# Altium footprint library Microchips.PcbLib: 37 footprints (part 2 of 3)
Each footprint in its own frame and in the unit in brackets; x right, y up, seen from the top. Pads: shape width x height; smd on the part's side, far side on the other; paste and mask are expansions set on the pad; w line width, h text height; cw(c..) or ccw(c..) is an arc to the next point about the centre after c.
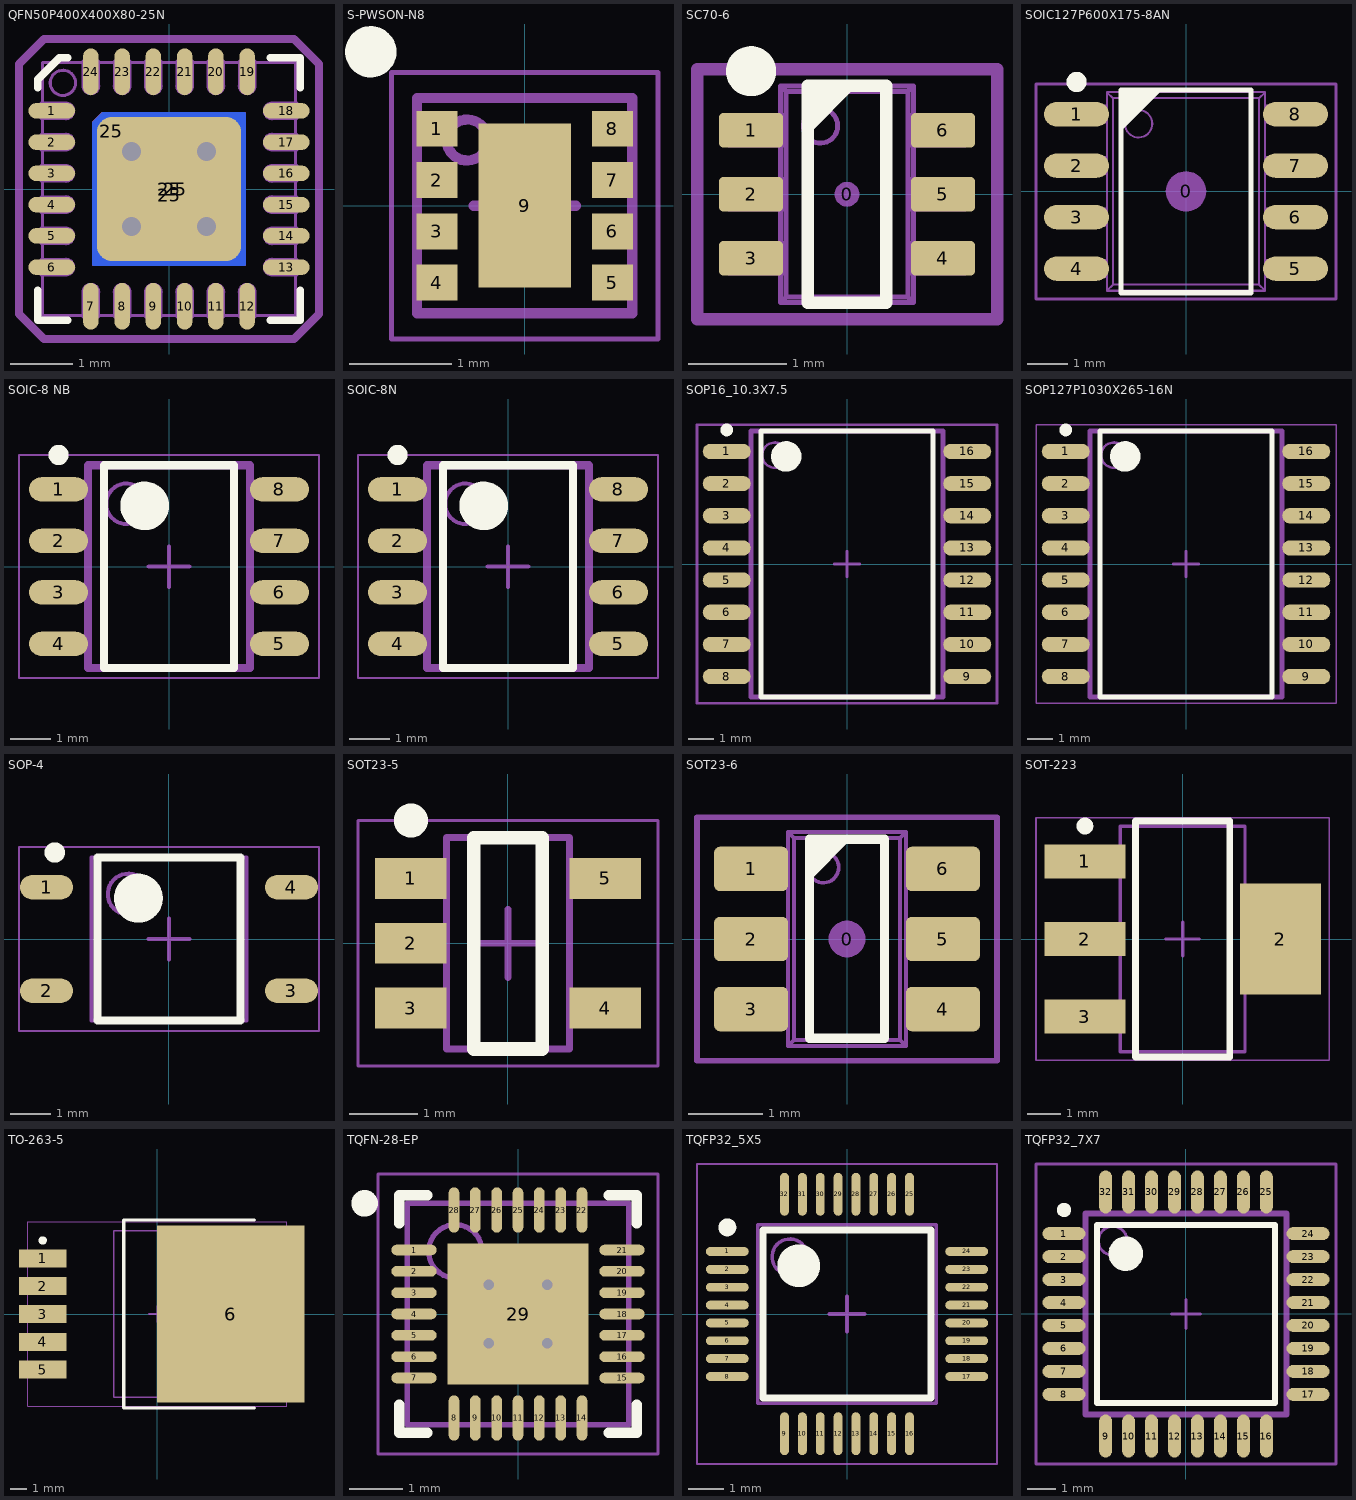
[diagram p1: the footprints below, top view; thin cyan lines are the x and y axes]

## QFN50P400X400X80-25N [mm] "QFN, 24-Leads with exposed die pad, Body 4.05x4.05mm (max), Pitch 0.50mm, IPC Medium Density"
height 0.8
pads (28):
  oval 0.75x0.25 smd mask+0.075: 1(-1.875,1.25) 2(-1.875,0.75) 3(-1.875,0.25) 4(-1.875,-0.25) 5(-1.875,-0.75) 6(-1.875,-1.25) 13(1.875,-1.25) 14(1.875,-0.75) 15(1.875,-0.25) 16(1.875,0.25) 17(1.875,0.75) 18(1.875,1.25)
  oval 0.25x0.75 smd mask+0.075: 7(-1.25,-1.875) 8(-0.75,-1.875) 9(-0.25,-1.875) 10(0.25,-1.875) 11(0.75,-1.875) 12(1.25,-1.875) 19(1.25,1.875) 20(0.75,1.875) 21(0.25,1.875) 22(-0.25,1.875) 23(-0.75,1.875) 24(-1.25,1.875)
  oct 0.6x0.6 smd far side paste-1.7: 25(-0.925,0.925)
  rrect1% 2.45x2.25 smd far side paste-1.7: 25(0,-0.1)
  rrect20% 2.3x2.3 smd paste-1.7: 25(0,0)
  rrect1% 2.25x2.45 smd far side paste-1.7: 25(0.1,0)
via -0.6,-0.6 diameter 0.4 hole 0.3
via 0.6,-0.6 diameter 0.4 hole 0.3
via 0.6,0.6 diameter 0.4 hole 0.3
via -0.6,0.6 diameter 0.4 hole 0.3
Top Layer:
  region: 1.025,-1.225 1.225,-1.225 1.225,1.225 1.025,1.225
  region: 1.225,-1.225 1.225,-1.025 -1.225,-1.025 -1.225,-1.225
  region: -1.225,1.075 -1.075,1.225 1.225,1.225 1.225,1.075
  region: -1.075,1.225 -1.225,1.075 -1.225,-1.225 -1.075,-1.225
Top Overlay:
  lines w0.127: -2.1,-1.625 -2.1,-2.1 -1.625,-2.1 ; -2.1,1.625 -2.1,1.75 -1.75,2.1 -1.625,2.1 ; 1.625,-2.1 2.1,-2.1 2.1,-1.625 ; 1.625,2.1 2.1,2.1 2.1,1.625
  text "." at -2.63,1.25 h0.05
Top Paste:
  region: -1.1,-0.3 -1.1,0.3 -1,0.4 -0.5,0.4 -0.4,0.5 -0.4,1 -0.3,1.1 0.3,1.1 0.4,1 0.4,0.5 0.5,0.4 1,0.4 1.1,0.3 1.1,-0.3 1,-0.4 0.5,-0.4 0.4,-0.5 0.4,-1 0.3,-1.1 -0.3,-1.1 -0.4,-1 -0.4,-0.5 -0.5,-0.4 -1,-0.4
Bottom Paste:
  region: 0.2,1 -0.2,1 -0.4,0.8 -0.4,0.5 -0.5,0.4 -0.8,0.4 -1,0.2 -1,-0.2 -0.8,-0.4 -0.5,-0.4 -0.4,-0.5 -0.4,-0.8 -0.2,-1 0.2,-1 0.4,-0.8 0.4,-0.5 0.5,-0.4 0.8,-0.4 1,-0.2 1,0.2 0.8,0.4 0.5,0.4 0.4,0.5 0.4,0.8
Top Solder:
  circle w0.4: c-0.6,-0.6 r0.4
  circle w0.4: c0.6,-0.6 r0.4
  circle w0.4: c0.6,0.6 r0.4
  circle w0.4: c-0.6,0.6 r0.4
  rectangle: -0.3,-1.225 0.3,1.2
  region: 1.225,-0.3 1.225,0.3 -1.2,0.3 -1.2,-0.3
Mechanical 13:
  circle w0.05: c-1.698,1.698 r0.202
  lines w0.05: -2.025,-1.375 -2.025,-2.025 -1.375,-2.025 ; -2.025,-1.125 -2.025,-0.875 ; -2.025,-0.625 -2.025,-0.375 ; -2.025,-0.125 -2.025,0.125 ; -2.025,0.375 -2.025,0.625 ; -2.025,0.875 -2.025,1.125 ; -2.025,1.375 -2.025,2.025 -1.375,2.025 ; -1.125,-2.025 -0.875,-2.025 ; -1.125,2.025 -0.875,2.025 ; -0.625,-2.025 -0.375,-2.025 ; -0.625,2.025 -0.375,2.025 ; -0.125,-2.025 0.125,-2.025 ; -0.125,2.025 0.125,2.025 ; 0.375,-2.025 0.625,-2.025 ; 0.375,2.025 0.625,2.025 ; 0.875,-2.025 1.125,-2.025 ; 0.875,2.025 1.125,2.025 ; 1.375,-2.025 2.025,-2.025 2.025,-1.375 ; 1.375,2.025 2.025,2.025 2.025,1.375 ; 2.025,-1.125 2.025,-0.875 ; 2.025,-0.625 2.025,-0.375 ; 2.025,-0.125 2.025,0.125 ; 2.025,0.375 2.025,0.625 ; 2.025,0.875 2.025,1.125 ; -2.045,-1.375 -1.65,-1.375 ccw(c-1.65,-1.25) -1.65,-1.125 -2.045,-1.125 -2.045,-1.375 ; -2.045,-0.875 -1.65,-0.875 ccw(c-1.65,-0.75) -1.65,-0.625 -2.045,-0.625 -2.045,-0.875 ; -2.045,-0.375 -1.65,-0.375 ccw(c-1.65,-0.25) -1.65,-0.125 -2.045,-0.125 -2.045,-0.375 ; -2.045,0.125 -1.65,0.125 ccw(c-1.65,0.25) -1.65,0.375 -2.045,0.375 -2.045,0.125 ; -2.045,0.625 -1.65,0.625 ccw(c-1.65,0.75) -1.65,0.875 -2.045,0.875 -2.045,0.625 ; -2.045,1.125 -1.65,1.125 ccw(c-1.65,1.25) -1.65,1.375 -2.045,1.375 -2.045,1.125 ; -1.375,-2.045 -1.375,-1.65 cw(c-1.25,-1.65) -1.125,-1.65 -1.125,-2.045 -1.375,-2.045 ; -1.375,1.65 ccw(c-1.25,1.65) -1.125,1.65 -1.125,2.045 -1.375,2.045 -1.375,1.65 ; -0.875,-2.045 -0.875,-1.65 cw(c-0.75,-1.65) -0.625,-1.65 -0.625,-2.045 -0.875,-2.045 ; -0.875,1.65 ccw(c-0.75,1.65) -0.625,1.65 -0.625,2.045 -0.875,2.045 -0.875,1.65 ; -0.375,-2.045 -0.375,-1.65 cw(c-0.25,-1.65) -0.125,-1.65 -0.125,-2.045 -0.375,-2.045 ; -0.375,1.65 ccw(c-0.25,1.65) -0.125,1.65 -0.125,2.045 -0.375,2.045 -0.375,1.65 ; 0.125,-2.045 0.125,-1.65 cw(c0.25,-1.65) 0.375,-1.65 0.375,-2.045 0.125,-2.045 ; 0.125,1.65 ccw(c0.25,1.65) 0.375,1.65 0.375,2.045 0.125,2.045 0.125,1.65 ; 0.625,-2.045 0.625,-1.65 cw(c0.75,-1.65) 0.875,-1.65 0.875,-2.045 0.625,-2.045 ; 0.625,1.65 ccw(c0.75,1.65) 0.875,1.65 0.875,2.045 0.625,2.045 0.625,1.65 ; 1.125,-2.045 1.125,-1.65 cw(c1.25,-1.65) 1.375,-1.65 1.375,-2.045 1.125,-2.045 ; 1.125,1.65 ccw(c1.25,1.65) 1.375,1.65 1.375,2.045 1.125,2.045 1.125,1.65 ; 1.65,-1.375 cw(c1.65,-1.25) 1.65,-1.125 2.045,-1.125 2.045,-1.375 1.65,-1.375 ; 1.65,-0.875 cw(c1.65,-0.75) 1.65,-0.625 2.045,-0.625 2.045,-0.875 1.65,-0.875 ; 1.65,-0.375 cw(c1.65,-0.25) 1.65,-0.125 2.045,-0.125 2.045,-0.375 1.65,-0.375 ; 1.65,0.125 cw(c1.65,0.25) 1.65,0.375 2.045,0.375 2.045,0.125 1.65,0.125 ; 1.65,0.625 cw(c1.65,0.75) 1.65,0.875 2.045,0.875 2.045,0.625 1.65,0.625 ; 1.65,1.125 cw(c1.65,1.25) 1.65,1.375 2.045,1.375 2.045,1.125 1.65,1.125
Mechanical 15:
  lines w0.127: -2.4,-2 -2.4,2 -2,2.4 2,2.4 2.4,2 2.4,-2 2,-2.4 -2,-2.4 -2.4,-2
3D body "QFN50P400X400X80-25N.STEP": height 0.8, standoff 0, extent -2.045,-2.045 2.045,2.045

## S-PWSON-N8 [mm] "PQFN, 8-Leads, Body 2,00x2,00mm, Pitch 0,50mm, Thermal Pad 0,90x1,60mm, IPC Medium Density"
height 0.8
pads (9):
  rect 0.4x0.35 smd: 1(-0.855,0.75) 2(-0.855,0.25) 3(-0.855,-0.25) 4(-0.855,-0.75) 5(0.855,-0.75) 6(0.855,-0.25) 7(0.855,0.25) 8(0.855,0.75)
  rect 0.9x1.6 smd: 9(0,0)
Top Overlay:
  circle w0.25: c-1.5,1.5 r0.125
Mechanical 13:
  circle w0.1: c-0.56,0.64 r0.2
  lines w0.1: -1.05,-1.05 -1.05,1.05 1.05,1.05 1.05,-1.05 -1.05,-1.05
Mechanical 15:
  lines w0.05: -1.3,-1.3 -1.3,1.3 1.3,1.3 1.3,-1.3 -1.3,-1.3
  lines w0.1: -0.5,0 0.5,0 ; 0,-0.5 0,0.5
3D body "DSG (S-PWSON-N8).step": height 0.79, standoff -0.01, extent -1.05,-1.05 1.05,1.05

## SC70-6 [mm] "SC70-6; SOT-363"
height 1.6
pads (7):
  round 0.254 on Mech15: 0(0,0)
  rrect25% 0.65x0.35 smd: 1(-0.975,0.65) 2(-0.975,0) 3(-0.975,-0.65) 4(0.975,-0.65) 5(0.975,0) 6(0.975,0.65)
Top Overlay:
  circle w0.254: c-0.975,1.25 r0.127
  region: 0.1,1.1 -0.4,0.6 -0.4,1.1
  lines w0.127: -0.4,-1.1 0.4,-1.1 0.4,1.1 -0.4,1.1 -0.4,-1.1
Mechanical 13:
  circle w0.05: c-0.27,0.695 r0.175
  lines w0.05: -1.028,-0.8 -1.028,-0.5 ; -1.028,-0.15 -1.028,0.15 ; -1.028,0.5 -1.028,0.8 ; -0.937,-0.8 -0.937,-0.5 ; -0.937,-0.15 -0.937,0.15 ; -0.937,0.5 -0.937,0.8 ; -0.925,-0.8 -0.925,-0.5 ; -0.925,-0.15 -0.925,0.15 ; -0.925,0.5 -0.925,0.8 ; 0.925,-0.8 0.925,-0.5 ; 0.925,-0.15 0.925,0.15 ; 0.925,0.5 0.925,0.8 ; 0.937,-0.8 0.937,-0.5 ; 0.937,-0.15 0.937,0.15 ; 0.937,0.5 0.937,0.8 ; 1.028,-0.8 1.028,-0.5 ; 1.028,-0.15 1.028,0.15 ; 1.028,0.5 1.028,0.8 ; -0.675,-1.1 -0.619,-1.044 ; -0.675,-1.1 -0.675,1.1 ; -0.675,-1.1 0.675,-1.1 ; -0.675,1.1 -0.619,1.044 ; -0.675,1.1 0.675,1.1 ; -0.619,-1.044 -0.619,1.044 ; -0.619,-1.044 0.619,-1.044 ; -0.619,1.044 0.619,1.044 ; 0.619,-1.044 0.619,1.044 ; 0.619,-1.044 0.675,-1.1 ; 0.619,1.044 0.675,1.1 ; 0.675,-1.1 0.675,1.1 ; -1.2,-0.8 -0.654,-0.8 -0.654,-0.5 -1.2,-0.5 -1.2,-0.8 ; -1.2,-0.15 -0.654,-0.15 -0.654,0.15 -1.2,0.15 -1.2,-0.15 ; -1.2,0.5 -0.654,0.5 -0.654,0.8 -1.2,0.8 -1.2,0.5 ; 0.654,-0.8 0.654,-0.5 1.2,-0.5 1.2,-0.8 0.654,-0.8 ; 0.654,-0.15 0.654,0.15 1.2,0.15 1.2,-0.15 0.654,-0.15 ; 0.654,0.5 0.654,0.8 1.2,0.8 1.2,0.5 0.654,0.5
Mechanical 15:
  lines w0.127: -1.524,-1.27 1.524,-1.27 1.524,1.27 -1.524,1.27 -1.524,-1.27
3D body "SOT363.STEP": height 1.1, standoff 0, extent -1.2,-1.1 1.2,1.1

## SOIC127P600X175-8AN [mm] "SOIC, 8-Leads, Body 4.9x3.9mm, Pitch 1.27mm, IPC Medium Density"
height 1.75
pads (9):
  round 1 on Mech15: 0(0,0)
  oval 1.6x0.6 smd: 1(-2.7,1.905) 2(-2.7,0.635) 3(-2.7,-0.635) 4(-2.7,-1.905) 5(2.7,-1.905) 6(2.7,-0.635) 7(2.7,0.635) 8(2.7,1.905)
Top Overlay:
  circle w0.25: c-2.7,2.7 r0.125
  region: -1.6,2.5 -0.6,2.5 -1.6,1.5
  lines w0.127: -1.6,-2.5 1.6,-2.5 1.6,2.5 -1.6,2.5 -1.6,-2.5
Mechanical 13:
  circle w0.05: c-1.17,1.67 r0.338
  lines w0.05: -2.631,-2.115 -2.631,-1.695 ; -2.631,-0.845 -2.631,-0.425 ; -2.631,0.425 -2.631,0.845 ; -2.631,1.695 -2.631,2.115 ; -2.543,-2.115 -2.543,-1.695 ; -2.543,-0.845 -2.543,-0.425 ; -2.543,0.425 -2.543,0.845 ; -2.543,1.695 -2.543,2.115 ; -2.403,-2.115 -2.403,-1.695 ; -2.403,-0.845 -2.403,-0.425 ; -2.403,0.425 -2.403,0.845 ; -2.403,1.695 -2.403,2.115 ; -2.113,-2.115 -2.113,-1.695 ; -2.113,-0.845 -2.113,-0.425 ; -2.113,0.425 -2.113,0.845 ; -2.113,1.695 -2.113,2.115 ; -1.95,-2.115 -3,-2.115 -3,-1.695 -1.95,-1.695 ; -1.95,-0.845 -3,-0.845 -3,-0.425 -1.95,-0.425 ; -1.95,0.425 -3,0.425 -3,0.845 -1.95,0.845 ; -1.95,1.695 -3,1.695 -3,2.115 -1.95,2.115 ; 1.95,-2.115 3,-2.115 3,-1.695 1.95,-1.695 ; 1.95,-0.845 3,-0.845 3,-0.425 1.95,-0.425 ; 1.95,0.425 3,0.425 3,0.845 1.95,0.845 ; 1.95,1.695 3,1.695 3,2.115 1.95,2.115 ; 2.113,-2.115 2.113,-1.695 ; 2.113,-0.845 2.113,-0.425 ; 2.113,0.425 2.113,0.845 ; 2.113,1.695 2.113,2.115 ; 2.403,-2.115 2.403,-1.695 ; 2.403,-0.845 2.403,-0.425 ; 2.403,0.425 2.403,0.845 ; 2.403,1.695 2.403,2.115 ; 2.543,-2.115 2.543,-1.695 ; 2.543,-0.845 2.543,-0.425 ; 2.543,0.425 2.543,0.845 ; 2.543,1.695 2.543,2.115 ; 2.631,-2.115 2.631,-1.695 ; 2.631,-0.845 2.631,-0.425 ; 2.631,0.425 2.631,0.845 ; 2.631,1.695 2.631,2.115 ; -1.95,-2.45 -1.801,-2.301 ; -1.95,-2.45 -1.95,2.45 ; -1.95,-2.45 1.95,-2.45 ; -1.95,2.45 1.95,2.45 ; -1.95,2.45 -1.801,2.301 ; -1.801,-2.301 -1.801,2.301 ; -1.801,-2.301 1.801,-2.301 ; -1.801,2.301 1.801,2.301 ; 1.801,-2.301 1.801,2.301 ; 1.801,-2.301 1.95,-2.45 ; 1.801,2.301 1.95,2.45 ; 1.95,-2.45 1.95,2.45
Mechanical 15:
  lines w0.076: -3.7,-2.65 3.7,-2.65 3.7,2.65 -3.7,2.65 -3.7,-2.65
3D body "SOIC-8.STEP": height 1.75, standoff 0, extent -3,-2.45 3,2.45

## SOIC-8 NB [mm] "SOIC, 8-Leads, Body 4,90x3,90mm, Pitch 1,27mm, IPC Medium Density"
height 1.75
pads (8):
  oval 1.45x0.6 smd: 1(-2.725,1.905) 2(-2.725,0.635) 3(-2.725,-0.635) 4(-2.725,-1.905) 5(2.725,-1.905) 6(2.725,-0.635) 7(2.725,0.635) 8(2.725,1.905)
Top Overlay:
  circle w0.6: c-0.6,1.5 r0.3
  circle w0.25: c-2.725,2.755 r0.125
  lines w0.2: -1.6,-2.5 1.6,-2.5 1.6,2.5 -1.6,2.5 -1.6,-2.5
Mechanical 13:
  circle w0.1: c-1.05,1.55 r0.5
  lines w0.2: -2,-2.5 2,-2.5 2,2.5 -2,2.5 -2,-2.5
Mechanical 15:
  lines w0.05: -3.7,-2.75 3.7,-2.75 3.7,2.75 -3.7,2.75 -3.7,-2.75
  lines w0.1: -0.5,0 0.5,0 ; 0,-0.5 0,0.5
3D body "SOIC-8-1.step": height 1.75, standoff 0, extent -3,-2.45 3,2.45

## SOIC-8N [mm] "SOIC, 8-Leads, Body 4,90x3,90mm, Pitch 1,27mm, IPC Medium Density"
height 1.75
pads (8):
  oval 1.45x0.6 smd: 1(-2.725,1.905) 2(-2.725,0.635) 3(-2.725,-0.635) 4(-2.725,-1.905) 5(2.725,-1.905) 6(2.725,-0.635) 7(2.725,0.635) 8(2.725,1.905)
Top Overlay:
  circle w0.25: c-2.725,2.755 r0.125
  circle w0.6: c-0.6,1.5 r0.3
  lines w0.2: -1.6,-2.5 -1.6,2.5 1.6,2.5 1.6,-2.5 -1.6,-2.5
Mechanical 13:
  circle w0.1: c-1.05,1.55 r0.5
  lines w0.2: -2,-2.5 -2,2.5 2,2.5 2,-2.5 -2,-2.5
Mechanical 15:
  lines w0.05: -3.7,-2.75 -3.7,2.75 3.7,2.75 3.7,-2.75 -3.7,-2.75
  lines w0.1: -0.5,0 0.5,0 ; 0,-0.5 0,0.5
3D body "SOIC-8-1.step": height 1.75, standoff 0, extent -3,-2.45 3,2.45

## SOP16_10.3X7.5 [mm] "SOP, 16-Leads, Body 10,30x7,50mm, Pitch 1,27mm, IPC Medium Density"
height 2.65
pads (16):
  oval 1.9x0.6 smd: 1(-4.75,4.445) 2(-4.75,3.175) 3(-4.75,1.905) 4(-4.75,0.635) 5(-4.75,-0.635) 6(-4.75,-1.905) 7(-4.75,-3.175) 8(-4.75,-4.445) 9(4.75,-4.445) 10(4.75,-3.175) 11(4.75,-1.905) 12(4.75,-0.635) 13(4.75,0.635) 14(4.75,1.905) 15(4.75,3.175) 16(4.75,4.445)
Top Overlay:
  circle w0.25: c-4.75,5.295 r0.125
  circle w0.6: c-2.4,4.25 r0.3
  lines w0.2: -3.4,-5.25 -3.4,5.25 3.4,5.25 3.4,-5.25 -3.4,-5.25
Mechanical 13:
  circle w0.1: c-2.85,4.3 r0.5
  lines w0.2: -3.8,-5.25 -3.8,5.25 3.8,5.25 3.8,-5.25 -3.8,-5.25
Mechanical 15:
  lines w0.1: -0.5,0 0.5,0 ; 0,-0.5 0,0.5 ; -5.925,-5.5 -5.925,5.5 5.925,5.5 5.925,-5.5 -5.925,-5.5
3D body "so16w.step": height 3.5, standoff 0, extent -5.15,-5.1 5.15,5.1

## SOP127P1030X265-16N [mm] "SOP, 16-Leads, Body 10,30x7,50mm, Pitch 1,27mm, IPC Medium Density"
height 2.65
pads (16):
  oval 1.9x0.6 smd: 1(-4.75,4.445) 2(-4.75,3.175) 3(-4.75,1.905) 4(-4.75,0.635) 5(-4.75,-0.635) 6(-4.75,-1.905) 7(-4.75,-3.175) 8(-4.75,-4.445) 9(4.75,-4.445) 10(4.75,-3.175) 11(4.75,-1.905) 12(4.75,-0.635) 13(4.75,0.635) 14(4.75,1.905) 15(4.75,3.175) 16(4.75,4.445)
Top Overlay:
  circle w0.25: c-4.75,5.295 r0.125
  circle w0.6: c-2.4,4.25 r0.3
  lines w0.2: -3.4,-5.25 -3.4,5.25 3.4,5.25 3.4,-5.25 -3.4,-5.25
Mechanical 13:
  circle w0.1: c-2.85,4.3 r0.5
  lines w0.2: -3.8,-5.25 -3.8,5.25 3.8,5.25 3.8,-5.25 -3.8,-5.25
Mechanical 15:
  lines w0.05: -5.925,-5.5 -5.925,5.5 5.925,5.5 5.925,-5.5 -5.925,-5.5
  lines w0.1: -0.5,0 0.5,0 ; 0,-0.5 0,0.5
3D body "SOP127P1030X265-16N.step": height 2.8, standoff 0, extent -5.178,-5.25 5.178,5.25

## SOP-4 [mm] "SOP, 4-Leads, Body 4,00x3,80mm, Pitch 2,54mm, IPC Medium Density"
height 2.18
pads (4):
  oval 1.3x0.6 smd: 1(-3,1.27) 2(-3,-1.27) 3(3,-1.27) 4(3,1.27)
Top Overlay:
  circle w0.6: c-0.75,1 r0.3
  circle w0.25: c-2.8,2.12 r0.125
  lines w0.2: -1.75,-2 1.75,-2 1.75,2 -1.75,2 -1.75,-2
Mechanical 13:
  circle w0.1: c-1,1.1 r0.5
  lines w0.1: -1.9,-2 1.9,-2 1.9,2 -1.9,2 -1.9,-2
Mechanical 15:
  lines w0.05: -3.675,-2.25 3.675,-2.25 3.675,2.25 -3.675,2.25 -3.675,-2.25
  lines w0.1: -0.5,0 0.5,0 ; 0,-0.5 0,0.5
3D body "4-SOP.STEP": height 2.1, standoff 0, extent -3.4,-2.15 3.4,2.15

## SOT23-5 [mm] "SOT23, 5-Leads, Body 2,90x2,70mm, Pitch 0,95mm, IPC Medium Density"
height 1.45
pads (5):
  rect 1.05x0.6 smd: 1(-1.425,0.95) 2(-1.425,0) 3(-1.425,-0.95) 4(1.425,-0.95) 5(1.425,0.95)
Top Overlay:
  circle w0.25: c-1.425,1.8 r0.125
  lines w0.2: -0.5,-1.55 0.5,-1.55 0.5,1.55 -0.5,1.55 -0.5,-1.55
Mechanical 13:
  lines w0.1: -0.9,-1.55 -0.9,1.55 0.9,1.55 0.9,-1.55 -0.9,-1.55
Mechanical 15:
  lines w0.05: -2.2,-1.8 -2.2,1.8 2.2,1.8 2.2,-1.8 -2.2,-1.8
  lines w0.1: -0.5,0 0.5,0 ; 0,-0.5 0,0.5
3D body "User Library-SOT23-5-2.step": height 1.45, standoff 0, extent -1.4,-1.45 1.4,1.45

## SOT23-6 [mm]
height 1.6
pads (7):
  round 0.5 on Mech15: 0(0,0)
  rrect25% 1x0.6 smd: 1(-1.3,0.95) 2(-1.3,0) 3(-1.3,-0.95) 4(1.3,-0.95) 5(1.3,0) 6(1.3,0.95)
Top Overlay:
  region: -0.508,1.353 0.053,1.353 -0.508,0.792
  lines w0.127: -0.508,-1.347 0.508,-1.347 0.508,1.353 -0.508,1.353 -0.508,-1.347
  text "." at -2.275,0.95 h0.1
Mechanical 13:
  circle w0.05: c-0.32,0.97 r0.208
  lines w0.05: -1.191,-1.15 -1.191,-0.75 ; -1.191,-0.2 -1.191,0.2 ; -1.191,0.75 -1.191,1.15 ; -1.1,-1.15 -1.1,-0.75 ; -1.1,-0.2 -1.1,0.2 ; -1.1,0.75 -1.1,1.15 ; -1.094,-1.15 -1.094,-0.75 ; -1.094,-0.2 -1.094,0.2 ; -1.094,0.75 -1.094,1.15 ; -0.844,-1.15 -0.844,-0.75 ; -0.844,-0.2 -0.844,0.2 ; -0.844,0.75 -0.844,1.15 ; -0.8,-1.15 -1.4,-1.15 -1.4,-0.75 -0.8,-0.75 ; -0.8,-0.2 -1.4,-0.2 -1.4,0.2 -0.8,0.2 ; -0.8,0.75 -1.4,0.75 -1.4,1.15 -0.8,1.15 ; 0.8,-1.15 1.4,-1.15 1.4,-0.75 0.8,-0.75 ; 0.8,-0.2 1.4,-0.2 1.4,0.2 0.8,0.2 ; 0.8,0.75 1.4,0.75 1.4,1.15 0.8,1.15 ; 0.844,-1.15 0.844,-0.75 ; 0.844,-0.2 0.844,0.2 ; 0.844,0.75 0.844,1.15 ; 1.094,-1.15 1.094,-0.75 ; 1.094,-0.2 1.094,0.2 ; 1.094,0.75 1.094,1.15 ; 1.1,-1.15 1.1,-0.75 ; 1.1,-0.2 1.1,0.2 ; 1.1,0.75 1.1,1.15 ; 1.191,-1.15 1.191,-0.75 ; 1.191,-0.2 1.191,0.2 ; 1.191,0.75 1.191,1.15 ; -0.8,-1.45 -0.8,1.45 ; -0.8,-1.45 -0.719,-1.369 ; -0.8,-1.45 0.8,-1.45 ; -0.8,1.45 -0.719,1.369 ; -0.8,1.45 0.8,1.45 ; -0.719,-1.369 0.719,-1.369 ; -0.719,-1.369 -0.719,1.369 ; -0.719,1.369 0.719,1.369 ; 0.719,-1.369 0.8,-1.45 ; 0.719,-1.369 0.719,1.369 ; 0.719,1.369 0.8,1.45 ; 0.8,-1.45 0.8,1.45
Mechanical 15:
  lines w0.076: -2.032,-1.651 2.032,-1.651 2.032,1.651 -2.032,1.651 -2.032,-1.651
3D body "SOT23-6.STEP": height 1.44, standoff -0.01, extent -1.4,-1.45 1.4,1.45

## SOT-223 [mm] "SOT223, 4-Leads, Body 6,50x7,00mm (avg), Pitch 2,30mm, IPC Medium Density"
height 1.8
pads (4):
  rect 2.4x1 smd: 1(-2.9,2.3) 2(-2.9,0) 3(-2.9,-2.3)
  rect 2.4x3.3 smd: 2(2.9,0)
Top Overlay:
  circle w0.25: c-2.9,3.35 r0.125
  lines w0.2: -1.4,-3.5 1.4,-3.5 1.4,3.5 -1.4,3.5 -1.4,-3.5
Mechanical 13:
  lines w0.1: -1.85,-3.35 1.85,-3.35 1.85,3.35 -1.85,3.35 -1.85,-3.35
Mechanical 15:
  lines w0.05: -4.35,-3.6 4.35,-3.6 4.35,3.6 -4.35,3.6 -4.35,-3.6
  lines w0.1: -0.5,0 0.5,0 ; 0,-0.5 0,0.5
3D body "User Library-SOT-223-1.step": height 1.64, standoff -0.01, extent -3.5,-3.25 3.5,3.25

## TO-263-5 [mm]
height 4.57
pads (6):
  rect 2.9x1.1 smd: 1(-7,3.4) 2(-7,1.7) 3(-7,0) 4(-7,-1.7) 5(-7,-3.4)
  rect 9x10.8 smd: 6(4.5,0)
Top Overlay:
  circle w0.25: c-7,4.5 r0.125
  lines w0.2: 5.95,-5.75 -2.05,-5.75 -2.05,5.75 5.95,5.75
Mechanical 13:
  lines w0.1: -2.65,-5.1 6,-5.1 6,5.1 -2.65,5.1 -2.65,-5.1
Mechanical 15:
  lines w0.05: -7.925,-5.65 7.925,-5.65 7.925,5.65 -7.925,5.65 -7.925,-5.65
  lines w0.1: -0.5,0 0.5,0 ; 0,-0.5 0,0.5
3D body "SW3dPS-TO263-5.STEP": height 4.78, standoff -0.02, extent -7.835,-5 7.835,5

## TQFN-28-EP [mm] "QFN, 28-Leads, Body 4,00x4,00mm, Pitch 0,40mm, Thermal Pad 2,65x2,65mm, IPC Medium Density"
height 0.75
pads (29):
  oval 0.85x0.2 smd: 1(-1.95,1.2) 2(-1.95,0.8) 3(-1.95,0.4) 4(-1.95,0) 5(-1.95,-0.4) 6(-1.95,-0.8) 7(-1.95,-1.2) 15(1.95,-1.2) 16(1.95,-0.8) 17(1.95,-0.4) 18(1.95,0) 19(1.95,0.4) 20(1.95,0.8) 21(1.95,1.2)
  oval 0.2x0.85 smd: 8(-1.2,-1.95) 9(-0.8,-1.95) 10(-0.4,-1.95) 11(0,-1.95) 12(0.4,-1.95) 13(0.8,-1.95) 14(1.2,-1.95) 22(1.2,1.95) 23(0.8,1.95) 24(0.4,1.95) 25(0,1.95) 26(-0.4,1.95) 27(-0.8,1.95) 28(-1.2,1.95)
  rect 2.65x2.65 smd: 29(0,0)
via -0.55,0.55 diameter 0.5 hole 0.2
via 0.55,0.55 diameter 0.5 hole 0.2
via -0.55,-0.55 diameter 0.5 hole 0.2
via 0.55,-0.55 diameter 0.5 hole 0.2
Top Overlay:
  circle w0.25: c-2.875,2.075 r0.125
  lines w0.2: -2.225,-1.7 -2.225,-2.225 -1.7,-2.225 ; -2.225,1.7 -2.225,2.225 -1.7,2.225 ; 1.7,-2.225 2.225,-2.225 2.225,-1.7 ; 1.7,2.225 2.225,2.225 2.225,1.7
Mechanical 13:
  circle w0.1: c-1.175,1.175 r0.5
  lines w0.1: -2.075,-2.075 -2.075,2.075 2.075,2.075 2.075,-2.075 -2.075,-2.075
Mechanical 15:
  lines w0.05: -2.625,-2.625 -2.625,2.625 2.625,2.625 2.625,-2.625 -2.625,-2.625
  lines w0.1: -0.5,0 0.5,0 ; 0,-0.5 0,0.5
3D body "User Library-QFN28-0_4.STEP": height 0.75, standoff 0, extent -2,-2 2,2

## TQFP32_5X5 [mm] "TSQFP, 32-Leads, Body 5,00x5,00mm, Pitch 0,50mm, IPC Medium Density"
height 1
pads (32):
  oval 1.2x0.25 smd: 1(-3.35,1.75) 2(-3.35,1.25) 3(-3.35,0.75) 4(-3.35,0.25) 5(-3.35,-0.25) 6(-3.35,-0.75) 7(-3.35,-1.25) 8(-3.35,-1.75) 17(3.35,-1.75) 18(3.35,-1.25) 19(3.35,-0.75) 20(3.35,-0.25) 21(3.35,0.25) 22(3.35,0.75) 23(3.35,1.25) 24(3.35,1.75)
  oval 0.25x1.2 smd: 9(-1.75,-3.35) 10(-1.25,-3.35) 11(-0.75,-3.35) 12(-0.25,-3.35) 13(0.25,-3.35) 14(0.75,-3.35) 15(1.25,-3.35) 16(1.75,-3.35) 25(1.75,3.35) 26(1.25,3.35) 27(0.75,3.35) 28(0.25,3.35) 29(-0.25,3.35) 30(-0.75,3.35) 31(-1.25,3.35) 32(-1.75,3.35)
Top Overlay:
  circle w0.6: c-1.35,1.35 r0.3
  circle w0.25: c-3.35,2.425 r0.125
  lines w0.2: -2.35,-2.35 2.35,-2.35 2.35,2.35 -2.35,2.35 -2.35,-2.35
Mechanical 13:
  circle w0.1: c-1.6,1.6 r0.5
  lines w0.1: -2.5,-2.5 2.5,-2.5 2.5,2.5 -2.5,2.5 -2.5,-2.5
Mechanical 15:
  lines w0.05: -4.2,-4.2 4.2,-4.2 4.2,4.2 -4.2,4.2 -4.2,-4.2
  lines w0.1: -0.5,0 0.5,0 ; 0,-0.5 0,0.5
3D body "SW3dPS-TQFP32-5.STEP": height 1.2, standoff -0.03, extent -3.5,-3.5 3.5,3.5

## TQFP32_7X7 [mm] "TQFP, 32-Leads, Body 7,00x7,00mm, Pitch 0,80mm, IPC Medium Density"
height 1
pads (32):
  oval 1.5x0.45 smd: 1(-4.25,2.8) 2(-4.25,2) 3(-4.25,1.2) 4(-4.25,0.4) 5(-4.25,-0.4) 6(-4.25,-1.2) 7(-4.25,-2) 8(-4.25,-2.8) 17(4.25,-2.8) 18(4.25,-2) 19(4.25,-1.2) 20(4.25,-0.4) 21(4.25,0.4) 22(4.25,1.2) 23(4.25,2) 24(4.25,2.8)
  oval 0.45x1.5 smd: 9(-2.8,-4.25) 10(-2,-4.25) 11(-1.2,-4.25) 12(-0.4,-4.25) 13(0.4,-4.25) 14(1.2,-4.25) 15(2,-4.25) 16(2.8,-4.25) 25(2.8,4.25) 26(2,4.25) 27(1.2,4.25) 28(0.4,4.25) 29(-0.4,4.25) 30(-1.2,4.25) 31(-2,4.25) 32(-2.8,4.25)
Top Overlay:
  circle w0.6: c-2.1,2.1 r0.3
  circle w0.25: c-4.25,3.625 r0.125
  lines w0.2: -3.1,-3.1 3.1,-3.1 3.1,3.1 -3.1,3.1 -3.1,-3.1
Mechanical 13:
  circle w0.1: c-2.55,2.55 r0.5
  lines w0.2: -3.5,-3.5 3.5,-3.5 3.5,3.5 -3.5,3.5 -3.5,-3.5
Mechanical 15:
  lines w0.1: -0.5,0 0.5,0 ; 0,-0.5 0,0.5 ; -5.225,-5.225 5.225,-5.225 5.225,5.225 -5.225,5.225 -5.225,-5.225
3D body "TQFP32-2.step": height 1, standoff 0, extent -4.5,-4.5 4.5,4.5